# Altium schematic symbol library MergenElektronik_Switches_TactileSwitches.SchLib: 2 symbols
Pins are listed as number, name and electrical type; pins without a type are passive.

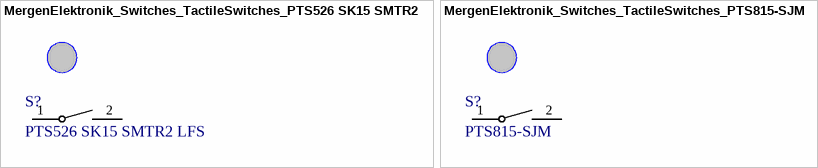
[diagram p0: symbols MergenElektronik_Switches_TactileSwitches_PTS526 SK15 SMTR2 LFS to MergenElektronik_Switches_TactileSwitches_PTS815-SJM]

## MergenElektronik_Switches_TactileSwitches_PTS526 SK15 SMTR2 LFS
designator S?, comment PTS526 SK15 SMTR2 LFS
Mergen Elektronik - Switches - Tactile  Switches - PTS526 SK15 SMTR2 LFS; Manufacturer: C&K; Current Rating: 50mA; Voltage Rated: 12VDC; Manufacturer Number: PTS526 SK15 SMTR2 LFS; Digi-Key Number: CKN12221-2-ND; Model: Tactile Switches; Mounting Type: Surface Mount; Package: PTS526; Temperature: -20°C up to +70°C; Value: PTS526 SK15 SMTR2 LFS; Mouser Number: 611-PTS526SK15SMR2L; Farnell Number: 3780596; Supplier 1: Digi-Key; Supplier 2: Mouser; Supplier Part Number 1: CKN12221-2-ND; Supplier Part Number 2: 611-PTS526SK15SMR2L
footprint MergenElektronik_Switches_TactileSwitches_PTS526 (PTS526 1.5mm Height)
pins: 1, 2

## MergenElektronik_Switches_TactileSwitches_PTS815-SJM
designator S?, comment PTS815-SJM
Mergen Elektronik - Switches - Tactile  Switches; Manufacturer Number: PTS815 SJM 250 SMTR LFS; Manufacturer: C&K; Current Rating: 50mA; Voltage Rated: 12VDC; Digi-Key Number: CKN12215-1-ND; Model: Tactile Switches; Mounting Type: Surface Mount; Package: PTS815; Temperature: -20°C up to +70°C; Value: PTS815-SJM; Mouser Number: 611-PTS815SJM250SMTR; Farnell Number: 3780619; Supplier 1: Mouser; Supplier 2: Digi-Key; Supplier Part Number 1: 611-PTS815SJM250SMTR; Supplier Part Number 2: CKN12215-6-ND
footprint MergenElektronik_Switches_TactileSwitches_PTS815 (PTS815)
pins: 1, 2